# EAGLE library part MOLEX-ULTRAFIT-1X08 (library MolexUltrafit)
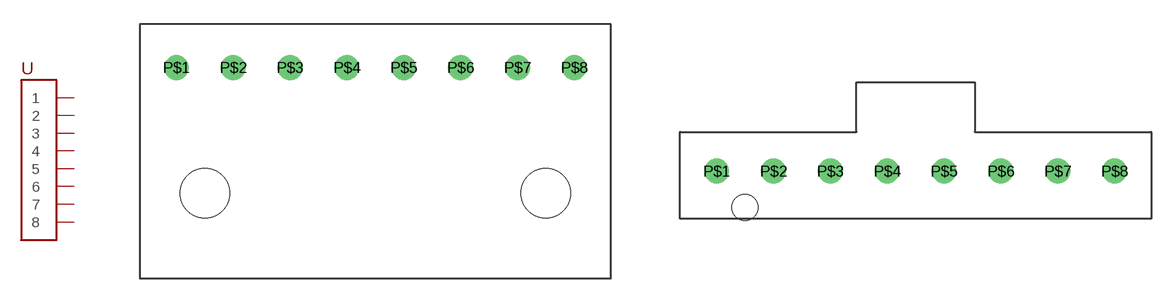
[diagram p0: symbol with the pads of MOLEX-ULTRAFIT-1X08H; footprints MOLEX-ULTRAFIT-1X08H, MOLEX-ULTRAFIT-1X08V]

Designator prefix -

## MOLEX-ULTRAFIT-1X08-HORIZ  [MOLEX-ULTRAFIT-1X08H]
P$1  1
P$2  2
P$3  3
P$4  4
P$5  5
P$6  6
P$7  7
P$8  8

## MOLEX-ULTRAFIT-1X08-VERT  [MOLEX-ULTRAFIT-1X08V]
Pads as for MOLEX-ULTRAFIT-1X08H

## Footprint MOLEX-ULTRAFIT-1X08H (pad centres in mm)
Molex UltraFit Horizontal 1x08 Parts 172310-1108 172310-1208 172310-1308 172310-2108 172310-2208 172310-2308 Data Sheet <https://www.molex.com/pdm_docs/sd/1723101108_sd.pdf>
drill 1.02: P$1 2.25,13; P$2 5.75,13; P$3 9.25,13; P$4 12.75,13; P$5 16.25,13; P$6 19.75,13; P$7 23.25,13; P$8 26.75,13
hole 3.05 at 4,5.25
hole 3.05 at 25,5.25

## Footprint MOLEX-ULTRAFIT-1X08V (pad centres in mm)
Molex UltraFit Vertical 1x08 Parts 172286-1108 172286-1208 172286-1308 172286-2108 172286-2208 172286-2308 Data Sheet <https://www.molex.com/pdm_docs/sd/1722861102_sd.pdf>
drill 1.02: P$1 2.25,2.93; P$2 5.75,2.93; P$3 9.25,2.93; P$4 12.75,2.93; P$5 16.25,2.93; P$6 19.75,2.93; P$7 23.25,2.93; P$8 26.75,2.93
hole 1.6 at 4,0.7